# Altium schematic symbol library DSP_FPGA_Lib.SchLib: 19 symbols
Pins are listed as number, name and electrical type; pins without a type are passive.

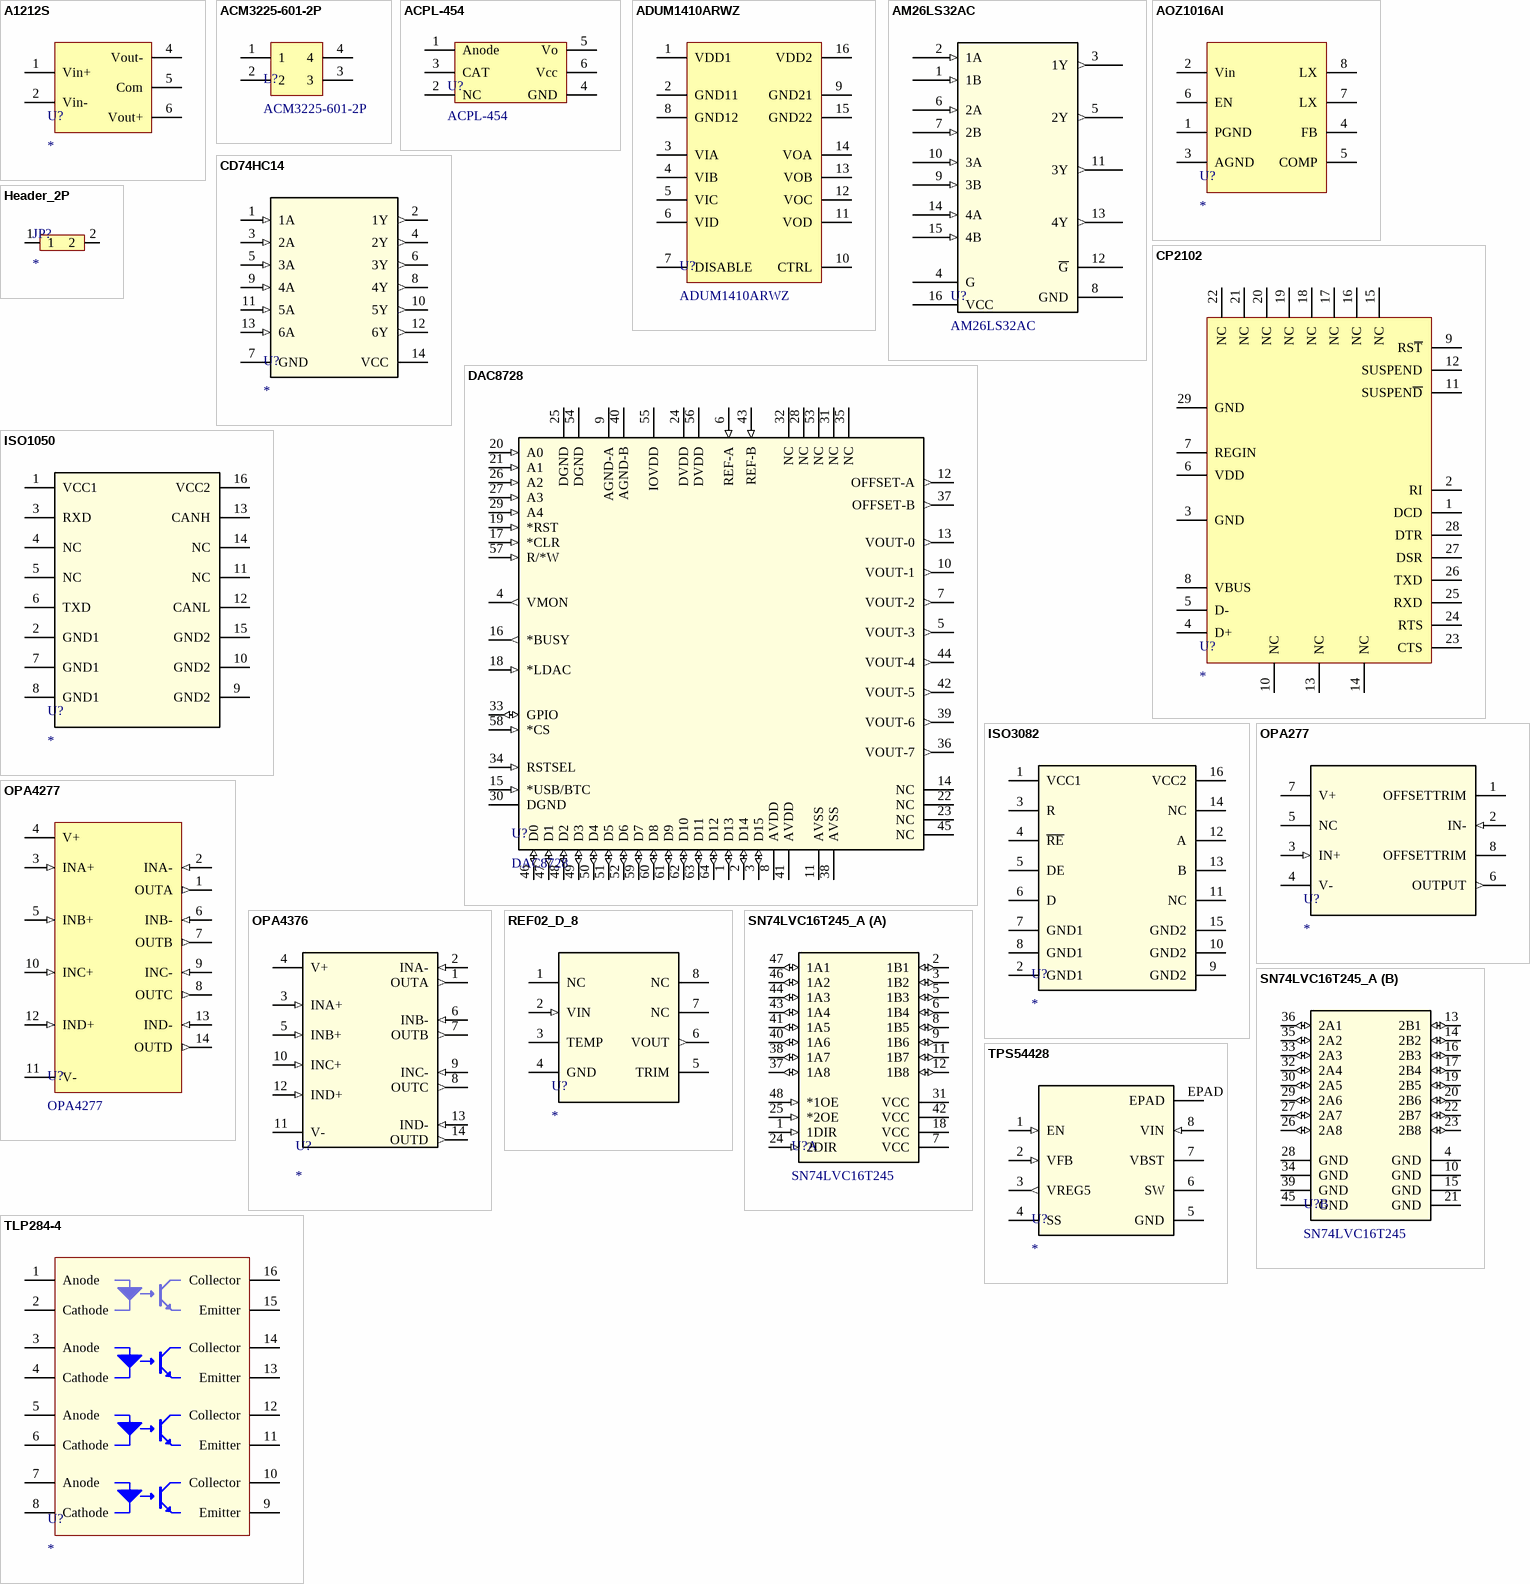
[diagram p0: symbols A1212S to TPS54428]

## A1212S
designator U?
pins: 1 Vin+, 2 Vin-, 4 Vout-, 5 Com, 6 Vout+

## ACM3225-601-2P
designator L?
pins: 1, 2, 3, 4

## ACPL-454
designator U?
pins: 1 Anode, 2 NC, 3 CAT, 4 GND, 5 Vo, 6 Vcc

## ADUM1410ARWZ
designator U?
pins: 1 VDD1, 2 GND11, 3 VIA, 4 VIB, 5 VIC, 6 VID, 7 DISABLE, 8 GND12, 9 GND21, 10 CTRL, 11 VOD, 12 VOC, 13 VOB, 14 VOA, 15 GND22, 16 VDD2

## AM26LS32AC
designator U?
pins: 1 1B (in), 2 1A (in), 3 1Y (out), 4 G, 5 2Y (out), 6 2A (in), 7 2B (in), 8 GND (power), 9 3B (in), 10 3A (in), 11 3Y (out), 12 ~{G}, 13 4Y (out), 14 4A (in), 15 4B (in), 16 VCC (power)

## AOZ1016AI
designator U?
pins: 1 PGND, 2 Vin, 3 AGND, 4 FB, 5 COMP, 6 EN, 7 LX, 8 LX

## CD74HC14
designator U?
Manufacturer: Texas Instruments; GENERIC_PART_NUMBER: CD74HC14; INDUSTRY_STD_PKG_TYPE: SOIC; FAMILY_NAME: INVERTING BUFFER/DRIVER; PIN_COUNT: 14; PACKAGE_DESIGNATOR: D; Datasheet_URL: http://www.ti.com/lit/gpn/CD74HC14; Value: Value; Type: Type; RefDes: RefDes
footprint D14
pins: 1 1A (in), 2 1Y (out), 3 2A (in), 4 2Y (out), 5 3A (in), 6 3Y (out), 7 GND (power), 8 4Y (out), 9 4A (in), 10 5Y (out), 11 5A (in), 12 6Y (out), 13 6A (in), 14 VCC (power)

## CP2102
designator U?
PART_DESC: SINGLE-CHIP USB TO UART BRIDGE, QFN28, RoHS.; PART_NUMBER: CP2102; MFG_#1: SILICON LABS; VALUE: CP2102; Type: Type; RefDes: RefDes
footprint QFN28N5X5-0p5P
pins: 1 DCD, 2 RI, 3 GND, 4 D+, 5 D-, 6 VDD, 7 REGIN, 8 VBUS, 9 RS~{T}, 10 NC, 11 SUSPEN~{D}, 12 SUSPEND, 13 NC, 14 NC, 15 NC, 16 NC, 17 NC, 18 NC, 19 NC, 20 NC, 21 NC, 22 NC, 23 CTS, 24 RTS, 25 RXD, 26 TXD, 27 DSR, 28 DTR, 29 GND

## DAC8728
designator U?
pins: 1 D13 (io), 2 D14 (io), 3 D15 (io), 4 VMON (out), 5 VOUT-3 (out), 6 REF-A (in), 7 VOUT-2 (out), 8 AVDD (power), 9 AGND-A (power), 10 VOUT-1 (out), 11 AVSS (power), 12 OFFSET-A (out), 13 VOUT-0 (out), 14 NC, 15 *USB/BTC (in), 16 *BUSY (out), 17 *CLR (in), 18 *LDAC (in), 19 *RST (in), 20 A0 (in), 21 A1 (in), 22 NC, 23 NC, 24 DVDD (power), 25 DGND (power), 26 A2 (in), 27 A3 (in), 28 NC, 29 A4 (in), 30 DGND (power), 31 NC, 32 NC, 33 GPIO (io), 34 RSTSEL (in), 35 NC, 36 VOUT-7 (out), 37 OFFSET-B (out), 38 AVSS (power), 39 VOUT-6 (out), 40 AGND-B (power), 41 AVDD (power), 42 VOUT-5 (out), 43 REF-B (in), 44 VOUT-4 (out), 45 NC, 46 D0 (io), 47 D1 (io), 48 D2 (io), 49 D3 (io), 50 D4 (io), 51 D5 (io), 52 D6 (io), 53 NC, 54 DGND (power), 55 IOVDD (power), 56 DVDD (power), 57 R/*W (in), 58 *CS (in), 59 D7 (io), 60 D8 (io), 61 D9 (io), 62 D10 (io), 63 D11 (io), 64 D12 (io)

## Header_2P
designator JP?
pins: 1, 2

## ISO1050
designator U?
Manufacturer: Texas Instruments; GENERIC_PART_NUMBER: ISO1050; Manufacturer_Part_Number: iso1050_dw_16; INDUSTRY_STD_PKG_TYPE: SOIC; FAMILY_NAME: ISOLATOR; PIN_COUNT: 16; PACKAGE_DESIGNATOR: DW; Datasheet_URL: http://www.ti.com/lit/gpn/ISO1050; Vendor: Texas Instruments; Value: Value; Type: Type; RefDes: RefDes
footprint DW16
pins: 1 VCC1 (power), 2 GND1 (power), 3 RXD, 4 NC, 5 NC, 6 TXD, 7 GND1 (power), 8 GND1 (power), 9 GND2 (power), 10 GND2 (power), 11 NC, 12 CANL, 13 CANH, 14 NC, 15 GND2 (power), 16 VCC2 (power)

## ISO3082
designator U?
Manufacturer: Texas Instruments; GENERIC_PART_NUMBER: ISO3082; Manufacturer_Part_Number: iso3082_dw_16; INDUSTRY_STD_PKG_TYPE: SOIC; FAMILY_NAME: ISOLATOR; PIN_COUNT: 16; PACKAGE_DESIGNATOR: DW; Datasheet_URL: http://www.ti.com/lit/gpn/ISO3082; Vendor: Texas Instruments; Value: Value; Type: Type; RefDes: RefDes
footprint DW16
pins: 1 VCC1 (power), 2 GND1 (power), 3 R, 4 ~{RE}, 5 DE, 6 D, 7 GND1 (power), 8 GND1 (power), 9 GND2 (power), 10 GND2 (power), 11 NC, 12 A, 13 B, 14 NC, 15 GND2 (power), 16 VCC2 (power)

## OPA277
designator U?
Manufacturer: Texas Instruments; GENERIC_PART_NUMBER: OPA277; Manufacturer_Part_Number: opa277_d_8; INDUSTRY_STD_PKG_TYPE: SOIC; FAMILY_NAME: LOW OFFSET VOLTAGE; PIN_COUNT: 8; PACKAGE_DESIGNATOR: D; Datasheet_URL: http://www.ti.com/lit/gpn/OPA277; Vendor: Texas Instruments; Value: Value; Type: Type; RefDes: RefDes
footprint D8
pins: 1 OFFSETTRIM, 2 IN- (in), 3 IN+ (in), 4 V- (power), 5 NC, 6 OUTPUT (out), 7 V+ (power), 8 OFFSETTRIM

## OPA4277
designator U?
footprint OPA4277_SOIC
pins: 1 OUTA (out), 2 INA- (in), 3 INA+ (in), 4 V+ (power), 5 INB+ (in), 6 INB- (in), 7 OUTB (out), 8 OUTC (out), 9 INC- (in), 10 INC+ (in), 11 V- (power), 12 IND+ (in), 13 IND- (in), 14 OUTD (out)

## OPA4376
designator U?
Manufacturer: Texas Instruments; GENERIC_PART_NUMBER: OPA4376; Manufacturer_Part_Number: opa4376_pw_14; INDUSTRY_STD_PKG_TYPE: TSSOP; FAMILY_NAME: LOW OFFSET VOLTAGE; PIN_COUNT: 14; PACKAGE_DESIGNATOR: PW; Datasheet_URL: http://www.ti.com/lit/gpn/OPA4376; Vendor: Texas Instruments; Value: Value; Type: Type; RefDes: RefDes
footprint PW14
pins: 1 OUTA (out), 2 INA- (in), 3 INA+ (in), 4 V+ (power), 5 INB+ (in), 6 INB- (in), 7 OUTB (out), 8 OUTC (out), 9 INC- (in), 10 INC+ (in), 11 V- (power), 12 IND+ (in), 13 IND- (in), 14 OUTD (out)

## REF02_D_8
designator U?
Manufacturer: Texas Instruments; GENERIC_PART_NUMBER: REF02; Manufacturer_Part_Number: ref02_d_8; INDUSTRY_STD_PKG_TYPE: SOIC; FAMILY_NAME: SERIES VOLTAGE REFERENCE; PIN_COUNT: 8; PACKAGE_DESIGNATOR: D; Datasheet_URL: http://www.ti.com/lit/gpn/REF02; Vendor: Texas Instruments; Value: Value; Type: Type; RefDes: RefDes
footprint D8
pins: 1 NC, 2 VIN (in), 3 TEMP, 4 GND (power), 5 TRIM, 6 VOUT (out), 7 NC, 8 NC

## SN74LVC16T245_A
designator U?, comment SN74LVC16T245
part A pins: 1 1DIR (in), 2 1B1 (io), 3 1B2 (io), 5 1B3 (io), 6 1B4 (io), 7 VCC (power), 8 1B5 (io), 9 1B6 (io), 11 1B7 (io), 12 1B8 (io), 18 VCC (power), 24 2DIR (in), 25 *2OE (in), 31 VCC (power), 37 1A8 (io), 38 1A7 (io), 40 1A6 (io), 41 1A5 (io), 42 VCC (power), 43 1A4 (io), 44 1A3 (io), 46 1A2 (io), 47 1A1 (io), 48 *1OE (in)
part B pins: 4 GND (power), 10 GND (power), 13 2B1 (io), 14 2B2 (io), 15 GND (power), 16 2B3 (io), 17 2B4 (io), 19 2B5 (io), 20 2B6 (io), 21 GND (power), 22 2B7 (io), 23 2B8 (io), 26 2A8 (io), 27 2A7 (io), 28 GND (power), 29 2A6 (io), 30 2A5 (io), 32 2A4 (io), 33 2A3 (io), 34 GND (power), 35 2A2 (io), 36 2A1 (io), 39 GND (power), 45 GND (power)

## TLP284-4
designator U?
pins: 1 Anode, 2 Cathode, 3 Anode, 4 Cathode, 5 Anode, 6 Cathode, 7 Anode, 8 Cathode, 9 Emitter, 10 Collector, 11 Emitter, 12 Collector, 13 Emitter, 14 Collector, 15 Emitter, 16 Collector

## TPS54428
designator U?
Manufacturer_Part_Number: tps54428_dda_8; GENERIC_PART_NUMBER: TPS54428; Vendor: Texas Instruments; PACKAGE_DESIGNATOR: DDA; PIN_COUNT: 8; FAMILY_NAME: STEP-DOWN REGULATOR; INDUSTRY_STD_PKG_TYPE: SO PowerPAD; Manufacturer: Texas Instruments; Datasheet_URL: http://www.ti.com/lit/gpn/TPS54428; Value: Value; Type: Type; RefDes: RefDes
footprint DDA8_3P1X2P4
pins: 1 EN (in), 2 VFB (in), 3 VREG5 (out), 4 SS, 5 GND (power), 6 SW, 7 VBST, 8 VIN (in), EPAD